# Altium footprint library WQFN_RTE.PcbLib: 2 footprints
Each footprint in its own frame and in the unit in brackets; x right, y up, seen from the top. Pads: shape width x height; smd on the part's side, far side on the other; paste and mask are expansions set on the pad; w line width, h text height; cw(c..) or ccw(c..) is an arc to the next point about the centre after c.
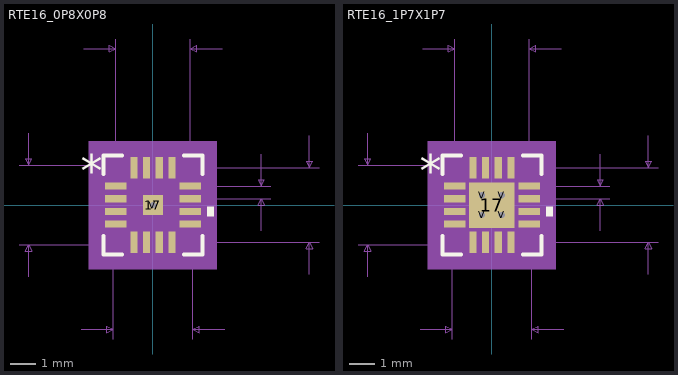
[diagram p0: the footprints below, top view; thin cyan lines are the x and y axes]

## RTE16_0P8X0P8 [mm]
pads (18):
  rect 0.85x0.28 smd paste-0.14 mask+0: 1(-1.475,0.75) 2(-1.475,0.25) 3(-1.475,-0.25) 4(-1.475,-0.75) 9(1.475,-0.75) 10(1.475,-0.25) 11(1.475,0.25) 12(1.475,0.75)
  rect 0.28x0.85 smd paste-0.14 mask+0: 5(-0.75,-1.475) 6(-0.25,-1.475) 7(0.25,-1.475) 8(0.75,-1.475) 13(0.75,1.475) 14(0.25,1.475) 15(-0.25,1.475) 16(-0.75,1.475)
  rect 0.8x0.8 smd paste-0.387 mask-0.381: 17(0,0)
  round 0.508 hole 0.254: V(0,0)
Top Overlay:
  region: 2.154,-0.059 2.408,-0.059 2.408,-0.44 2.154,-0.44
  lines w0.152: -1.956,-1.218 -1.956,-1.956 -1.218,-1.956 ; -1.956,1.218 -1.956,1.956 -1.218,1.956 ; 1.218,-1.956 1.956,-1.956 1.956,-1.218 ; 1.218,1.956 1.956,1.956 1.956,1.218
  text "*" at -2.852,0.746 h1.27
Top Paste:
  region: 0.325,-0.1 0.241,-0.1 0.1,-0.241 0.1,-0.325 0.325,-0.325
  region: 0.325,0.325 0.1,0.325 0.1,0.241 0.241,0.1 0.325,0.1
  region: -0.241,-0.1 -0.325,-0.1 -0.325,-0.325 -0.1,-0.325 -0.1,-0.241
  region: -0.1,0.325 -0.325,0.325 -0.325,0.1 -0.241,0.1 -0.1,0.241
  region: -0.635,1.875 -0.865,1.875 -0.865,1.075 -0.635,1.075
  region: -0.135,1.875 -0.365,1.875 -0.365,1.075 -0.135,1.075
  region: 0.365,1.875 0.135,1.875 0.135,1.075 0.365,1.075
  region: 0.865,1.875 0.635,1.875 0.635,1.075 0.865,1.075
  region: 1.875,0.865 1.075,0.865 1.075,0.635 1.875,0.635
  region: 1.875,0.365 1.075,0.365 1.075,0.135 1.875,0.135
  region: 1.875,-0.135 1.075,-0.135 1.075,-0.365 1.875,-0.365
  region: 1.875,-0.635 1.075,-0.635 1.075,-0.865 1.875,-0.865
  region: 0.865,-1.075 0.635,-1.075 0.635,-1.875 0.865,-1.875
  region: 0.365,-1.075 0.135,-1.075 0.135,-1.875 0.365,-1.875
  region: -0.135,-1.075 -0.365,-1.075 -0.365,-1.875 -0.135,-1.875
  region: -0.635,-1.075 -0.865,-1.075 -0.865,-1.875 -0.635,-1.875
  region: -1.075,-0.635 -1.875,-0.635 -1.875,-0.865 -1.075,-0.865
  region: -1.075,-0.135 -1.875,-0.135 -1.875,-0.365 -1.075,-0.365
  region: -1.075,0.365 -1.875,0.365 -1.875,0.135 -1.075,0.135
  region: -1.075,0.865 -1.875,0.865 -1.875,0.635 -1.075,0.635
Top Solder:
  region: 0.2,-0.463 0.2,0.463 0.463,0.463 0.463,-0.463
  region: -0.463,-0.463 -0.463,0.463 -0.2,0.463 -0.2,-0.463
  region: -0.463,-0.463 -0.463,-0.2 0.463,-0.2 0.463,-0.463
  region: -0.463,0.2 -0.463,0.463 0.463,0.463 0.463,0.2
  region: -0.54,1.97 -0.96,1.97 -0.96,0.98 -0.54,0.98
  region: -0.04,1.97 -0.46,1.97 -0.46,0.98 -0.04,0.98
  region: 0.46,1.97 0.04,1.97 0.04,0.98 0.46,0.98
  region: 0.96,1.97 0.54,1.97 0.54,0.98 0.96,0.98
  region: 1.97,0.96 0.98,0.96 0.98,0.54 1.97,0.54
  region: 1.97,0.46 0.98,0.46 0.98,0.04 1.97,0.04
  region: 1.97,-0.04 0.98,-0.04 0.98,-0.46 1.97,-0.46
  region: 1.97,-0.54 0.98,-0.54 0.98,-0.96 1.97,-0.96
  region: 0.96,-0.98 0.54,-0.98 0.54,-1.97 0.96,-1.97
  region: 0.46,-0.98 0.04,-0.98 0.04,-1.97 0.46,-1.97
  region: -0.04,-0.98 -0.46,-0.98 -0.46,-1.97 -0.04,-1.97
  region: -0.54,-0.98 -0.96,-0.98 -0.96,-1.97 -0.54,-1.97
  region: -0.98,-0.54 -1.97,-0.54 -1.97,-0.96 -0.98,-0.96
  region: -0.98,-0.04 -1.97,-0.04 -1.97,-0.46 -0.98,-0.46
  region: -0.98,0.46 -1.97,0.46 -1.97,0.04 -0.98,0.04
  region: -0.98,0.96 -1.97,0.96 -1.97,0.54 -0.98,0.54
Mechanical 5:
  region: 2.535,-2.535 -2.535,-2.535 -2.535,2.535 2.535,2.535
Mechanical 7:
  lines w0.025: -5.306,-1.575 1.575,-1.575 ; -5.306,1.575 1.575,1.575 1.575,-5.306 ; -4.925,-2.845 -4.925,-1.575 ; -4.925,2.845 -4.925,1.575 ; -2.845,-4.925 -1.575,-4.925 ; -2.745,6.195 -1.475,6.195 ; -1.575,-5.306 -1.575,1.575 ; -1.475,0.75 -1.475,6.576 ; 0.75,-1.475 6.576,-1.475 ; 0.75,1.475 6.576,1.475 ; 1.475,0.25 4.671,0.25 ; 1.475,6.576 1.475,0.75 4.671,0.75 ; 2.745,6.195 1.475,6.195 ; 2.845,-4.925 1.575,-4.925 ; 4.29,-1.02 4.29,0.25 ; 4.29,2.02 4.29,0.75 ; 6.195,-2.745 6.195,-1.475 ; 6.195,2.745 6.195,1.475 ; -4.925,-1.575 -4.798,-1.829 -5.052,-1.829 -4.925,-1.575 ; -4.925,1.575 -4.798,1.829 -5.052,1.829 -4.925,1.575 ; -1.575,-4.925 -1.829,-5.052 -1.829,-4.798 -1.575,-4.925 ; -1.475,6.195 -1.729,6.068 -1.729,6.322 -1.475,6.195 ; 1.475,6.195 1.729,6.068 1.729,6.322 1.475,6.195 ; 1.575,-4.925 1.829,-5.052 1.829,-4.798 1.575,-4.925 ; 4.29,0.25 4.417,-0.004 4.163,-0.004 4.29,0.25 ; 4.29,0.75 4.417,1.004 4.163,1.004 4.29,0.75 ; 6.195,-1.475 6.322,-1.729 6.068,-1.729 6.195,-1.475 ; 6.195,1.475 6.322,1.729 6.068,1.729 6.195,1.475
  text "0.124in/3.15mm" at -2.222,-6.068 h0.64
  text "0.124in/3.15mm" at -9.878,-0.318 h0.64
  text "0.116in/2.95mm" at 6.703,-0.318 h0.64
  text "0.116in/2.95mm" at -2.222,6.703 h0.64
  text "0.02in/0.5mm" at 4.798,0.182 h0.64
  text "Alt 2 Padstyle: b229_152h76" at -8.572,-14.196 h1.27
  text "Alt 1 Padstyle: b152_229h76" at -8.572,-12.672 h1.27
  text "Via Padstyle: c51h25" at -6.35,-11.148 h1.27
  text "Heat Tab Padstyle: r80_80" at -7.938,-9.624 h1.27
  text "Default Padstyle: r28_85" at -7.62,-8.1 h1.27
Mechanical 13:
  lines w0.025: -1.575,0.305 -0.305,1.575 ; -1.575,-1.575 -1.575,1.575 1.575,1.575 1.575,-1.575 -1.575,-1.575
  text "*" at -1.114,0.365 h1.27
Mechanical 15:
  region: -1.144,-1.829 -1.829,-1.829 -1.829,-1.144 -2.154,-1.144 -2.154,1.144 -1.829,1.144 -1.829,1.829 -1.144,1.829 -1.144,2.154 1.144,2.154 1.144,1.829 1.829,1.829 1.829,1.144 2.154,1.144 2.154,-1.144 1.829,-1.144 1.829,-1.829 1.144,-1.829 1.144,-2.154 -1.144,-2.154
  lines w0.152: -2.154,-1.144 -2.154,1.144 -1.829,1.144 -1.829,1.829 -1.144,1.829 -1.144,2.154 1.144,2.154 1.144,1.829 1.829,1.829 1.829,1.144 2.154,1.144 2.154,-1.144 1.829,-1.144 1.829,-1.829 1.144,-1.829 1.144,-2.154 -1.144,-2.154 -1.144,-1.829 -1.829,-1.829 -1.829,-1.144 -2.154,-1.144
3D body "WQFN_RTE16.step": height 0.8, standoff 0, extent -1.626,-1.626 1.626,1.626

## RTE16_1P7X1P7 [mm]
pads (21):
  rect 0.85x0.28 smd paste+0 mask+0: 1(-1.475,0.75) 2(-1.475,0.25) 3(-1.475,-0.25) 4(-1.475,-0.75) 9(1.475,-0.75) 10(1.475,-0.25) 11(1.475,0.25) 12(1.475,0.75)
  rect 0.28x0.85 smd paste+0 mask+0: 5(-0.75,-1.475) 6(-0.25,-1.475) 7(0.25,-1.475) 8(0.75,-1.475) 13(0.75,1.475) 14(0.25,1.475) 15(-0.25,1.475) 16(-0.75,1.475)
  rect 1.803x1.803 smd paste-0.902 mask-0.889: 17(0,0)
  round 0.508 hole 0.254: V(-0.394,-0.394) V(-0.394,0.394) V(0.394,-0.394) V(0.394,0.394)
Top Overlay:
  region: 2.154,-0.059 2.408,-0.059 2.408,-0.44 2.154,-0.44
  lines w0.152: -1.956,-1.218 -1.956,-1.956 -1.218,-1.956 ; -1.956,1.218 -1.956,1.956 -1.218,1.956 ; 1.218,-1.956 1.956,-1.956 1.956,-1.218 ; 1.218,1.956 1.956,1.956 1.956,1.218
  text "*" at -2.852,0.746 h1.27
Top Paste:
  region: -0.494,0.827 -0.827,0.827 -0.827,0.494 -0.635,0.494 -0.494,0.635
  region: -0.635,0.294 -0.827,0.294 -0.827,-0.294 -0.635,-0.294 -0.494,-0.152 -0.494,0.152
  region: -0.635,-0.494 -0.827,-0.494 -0.827,-0.827 -0.494,-0.827 -0.494,-0.635
  region: 0.294,0.827 -0.294,0.827 -0.294,0.635 -0.152,0.494 0.152,0.494 0.294,0.635
  region: 0.152,0.294 -0.152,0.294 -0.294,0.152 -0.294,-0.152 -0.152,-0.294 0.152,-0.294 0.294,-0.152 0.294,0.152
  region: 0.152,-0.494 -0.152,-0.494 -0.294,-0.635 -0.294,-0.827 0.294,-0.827 0.294,-0.635
  region: 0.827,0.827 0.494,0.827 0.494,0.635 0.635,0.494 0.827,0.494
  region: 0.827,0.294 0.635,0.294 0.494,0.152 0.494,-0.152 0.635,-0.294 0.827,-0.294
  region: 0.827,-0.494 0.635,-0.494 0.494,-0.635 0.494,-0.827 0.827,-0.827
Top Solder:
  region: -0.965,0.594 -0.965,0.965 0.965,0.965 0.965,0.594
  region: -0.965,-0.194 -0.965,0.194 0.965,0.194 0.965,-0.194
  region: -0.965,-0.965 -0.965,-0.594 0.965,-0.594 0.965,-0.965
  region: -0.965,-0.965 -0.965,0.965 -0.594,0.965 -0.594,-0.965
  region: 0.194,-0.965 0.194,0.965 -0.194,0.965 -0.194,-0.965
  region: 0.594,-0.965 0.594,0.965 0.965,0.965 0.965,-0.965
Mechanical 5:
  region: 2.535,-2.535 -2.535,-2.535 -2.535,2.535 2.535,2.535
Mechanical 7:
  lines w0.025: -5.306,-1.575 1.575,-1.575 ; -5.306,1.575 1.575,1.575 1.575,-5.306 ; -4.925,-2.845 -4.925,-1.575 ; -4.925,2.845 -4.925,1.575 ; -2.845,-4.925 -1.575,-4.925 ; -2.745,6.195 -1.475,6.195 ; -1.575,-5.306 -1.575,1.575 ; -1.475,0.75 -1.475,6.576 ; 0.75,-1.475 6.576,-1.475 ; 0.75,1.475 6.576,1.475 ; 1.475,0.25 4.671,0.25 ; 1.475,6.576 1.475,0.75 4.671,0.75 ; 2.745,6.195 1.475,6.195 ; 2.845,-4.925 1.575,-4.925 ; 4.29,-1.02 4.29,0.25 ; 4.29,2.02 4.29,0.75 ; 6.195,-2.745 6.195,-1.475 ; 6.195,2.745 6.195,1.475 ; -4.925,-1.575 -5.052,-1.829 -4.798,-1.829 -4.925,-1.575 ; -4.925,1.575 -5.052,1.829 -4.798,1.829 -4.925,1.575 ; -1.575,-4.925 -1.829,-4.798 -1.829,-5.052 -1.575,-4.925 ; -1.475,6.195 -1.729,6.322 -1.729,6.068 -1.475,6.195 ; 1.475,6.195 1.729,6.322 1.729,6.068 1.475,6.195 ; 1.575,-4.925 1.829,-4.798 1.829,-5.052 1.575,-4.925 ; 4.29,0.25 4.163,-0.004 4.417,-0.004 4.29,0.25 ; 4.29,0.75 4.163,1.004 4.417,1.004 4.29,0.75 ; 6.195,-1.475 6.068,-1.729 6.322,-1.729 6.195,-1.475 ; 6.195,1.475 6.068,1.729 6.322,1.729 6.195,1.475
  text "Default Padstyle: r28_85" at -7.62,-8.1 h1.27
  text "Heat Tab Padstyle: r180_180" at -8.572,-9.624 h1.27
  text "Via Padstyle: c51h25" at -6.35,-11.148 h1.27
  text "Alt 1 Padstyle: b152_229h76" at -8.572,-12.672 h1.27
  text "Alt 2 Padstyle: b229_152h76" at -8.572,-14.196 h1.27
  text "0.02in/0.5mm" at 4.798,0.182 h0.64
  text "0.116in/2.95mm" at -2.222,6.703 h0.64
  text "0.116in/2.95mm" at 6.703,-0.318 h0.64
  text "0.124in/3.15mm" at -9.878,-0.318 h0.64
  text "0.124in/3.15mm" at -2.222,-6.068 h0.64
Mechanical 13:
  lines w0.025: -1.575,0.305 -0.305,1.575 ; -1.575,-1.575 1.575,-1.575 1.575,1.575 -1.575,1.575 -1.575,-1.575
  text "*" at -1.114,0.365 h1.27
Mechanical 15:
  region: -1.144,-1.829 -1.829,-1.829 -1.829,-1.144 -2.154,-1.144 -2.154,1.144 -1.829,1.144 -1.829,1.829 -1.144,1.829 -1.144,2.154 1.144,2.154 1.144,1.829 1.829,1.829 1.829,1.144 2.154,1.144 2.154,-1.144 1.829,-1.144 1.829,-1.829 1.144,-1.829 1.144,-2.154 -1.144,-2.154
  lines w0.152: -2.154,-1.144 -1.829,-1.144 -1.829,-1.829 -1.144,-1.829 -1.144,-2.154 1.144,-2.154 1.144,-1.829 1.829,-1.829 1.829,-1.144 2.154,-1.144 2.154,1.144 1.829,1.144 1.829,1.829 1.144,1.829 1.144,2.154 -1.144,2.154 -1.144,1.829 -1.829,1.829 -1.829,1.144 -2.154,1.144 -2.154,-1.144
3D body "WQFN_RTE16C.stp": height 0.8, standoff 0, extent -1.5,-1.5 1.5,1.5